# Altium footprint library USB.PcbLib: 2 footprints
Each footprint in its own frame and in the unit in brackets; x right, y up, seen from the top. Pads: shape width x height; smd on the part's side, far side on the other; paste and mask are expansions set on the pad; w line width, h text height; cw(c..) or ccw(c..) is an arc to the next point about the centre after c.
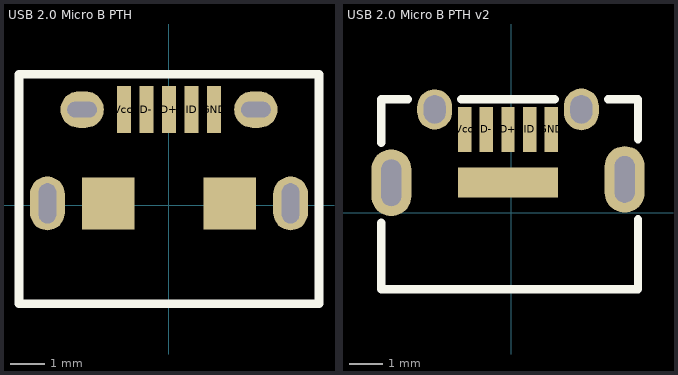
[diagram p0: the footprints below, top view; thin cyan lines are the x and y axes]

## USB 2.0 Micro B PTH [mm] "USB - micro B USB 2.0 Receptacle Connector 5 Position Surface Mount, Right Angle; Through Hole"
pads (11):
  rect 0.4x1.35 smd: D+(0.002,2.754) D-(-0.648,2.754) GND(1.302,2.754) ID(0.652,2.754) Vcc(-1.298,2.754)
  oval 1x1.55 hole 0.5 slot 1.15 at 90 deg: ""(-3.498,0.054) ""(3.502,0.054)
  oval 1.25x1.05 hole 0.45 slot 0.85 at 0 deg: ""(-2.498,2.754) ""(2.502,2.754)
  rect 1.5x1.5 smd: ""(-1.748,0.054) ""(1.752,0.054)
Top Overlay:
  lines w0.254: -4.316,-2.834 4.32,-2.834 4.32,3.77 -4.316,3.77 -4.316,-2.834
3D body "USB Micro 2.stp": height 2.77, standoff -0.51, extent -4.023,-2.626 4.027,2.954

## USB 2.0 Micro B PTH v2 [mm] "USB - micro B USB 2.0 Receptacle Connector 5 Position Surface Mount, Right Angle; Through Hole"
pads (10):
  rect 0.4x1.35 smd: D+(-0.1,2.5) D-(-0.75,2.5) GND(1.2,2.5) ID(0.55,2.5) Vcc(-1.4,2.5)
  oval 1.2x2 hole 0.6 slot 1.4 at 90 deg: ""(-3.6,0.9) ""(3.4,1)
  oval 1.05x1.2 hole 0.65 slot 0.85 at 90 deg: ""(-2.3,3.1)
  rect 3x0.9 smd: ""(-0.1,0.9)
  oval 1.05x1.25 hole 0.65 slot 0.85 at 90 deg: ""(2.1,3.1)
Top Overlay:
  lines w0.254: -3.9,-0.3 -3.9,-2.3 3.8,-2.3 3.8,-0.2 ; -3.9,2.1 -3.9,3.4 -3.1,3.4 ; -1.5,3.4 1.3,3.4 ; 2.9,3.4 3.8,3.4 3.8,2.2
3D body "USB Micro B 2.step": height 2.77, standoff -0.64, extent -3.8,-2.1 3.7,3.195